# EAGLE library part 20P-CH-TO-CH (library bao)
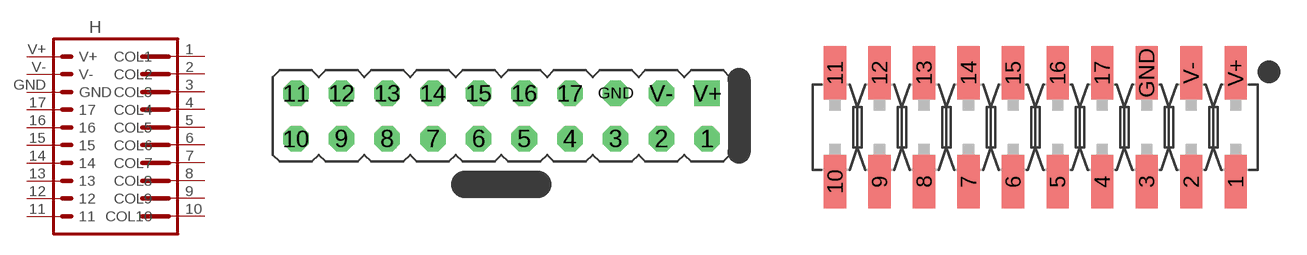
[diagram p6: symbol with the pads of 20P_IDC_CH-TO-CH_01; footprints 20P_IDC_CH-TO-CH_01, HEADER_IDC_20P_SMD]

Designator prefix H

## 20P-CH-TO-CH (NHPREF: 69; POPULATE: TRUE; VALUE: 2x10_JTAG)  [20P_IDC_CH-TO-CH_01]
1  COL1  pas
2  COL2  pas
3  COL3  pas
4  COL4  pas
5  COL5  pas
6  COL6  pas
7  COL7  pas
8  COL8  pas
9  COL9  pas
10  COL10  pas
11  11  pas
12  12  pas
13  13  pas
14  14  pas
15  15  pas
16  16  pas
17  17  pas
GND  GND  pas
V+  V+  pas
V-  V-  pas

## 20P-CH-TO-CH_SMD (NHPREF: 271; POPULATE: TRUE; VALUE: 20p_smd)  [HEADER_IDC_20P_SMD]
Pads as for 20P_IDC_CH-TO-CH_01

## Footprint 20P_IDC_CH-TO-CH_01 (pad centres in mm)
drill 0.914 octagon: 1 11.43,-1.27; 2 8.89,-1.27; 3 6.35,-1.27; 4 3.81,-1.27; 5 1.27,-1.27; 6 -1.27,-1.27; 7 -3.81,-1.27; 8 -6.35,-1.27; 9 -8.89,-1.27; 10 -11.43,-1.27; 11 -11.43,1.27; 12 -8.89,1.27; 13 -6.35,1.27; 14 -3.81,1.27; 15 -1.27,1.27; 16 1.27,1.27; 17 3.81,1.27; GND 6.35,1.27; V- 8.89,1.27
drill 0.914 square: V+ 11.43,1.27

## Footprint HEADER_IDC_20P_SMD (pad centres in mm)
smd 1.27 x 3.048: 1 11.43,-3.113; 2 8.89,-3.113; 3 6.35,-3.113; 4 3.81,-3.113; 5 1.27,-3.113; 6 -1.27,-3.113; 7 -3.81,-3.113; 8 -6.35,-3.113; 9 -8.89,-3.113; 10 -11.43,-3.113; 11 -11.43,3.113; 12 -8.89,3.113; 13 -6.35,3.113; 14 -3.81,3.113; 15 -1.27,3.113; 16 1.27,3.113; 17 3.81,3.113; GND 6.35,3.113; V+ 11.43,3.113; V- 8.89,3.113